# Altium schematic symbol library KSZ9031RNX.Schlib: 1 symbol
Pins are listed as number, name and electrical type; pins without a type are passive.

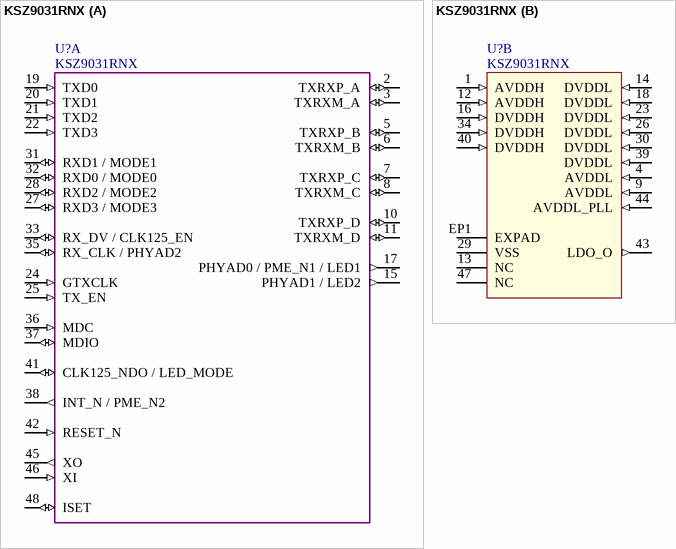
[diagram p0: symbol KSZ9031RNX]

## KSZ9031RNX
designator U?
part A pins: 2 TXRXP_A (io), 3 TXRXM_A (io), 5 TXRXP_B (io), 6 TXRXM_B (io), 7 TXRXP_C (io), 8 TXRXM_C (io), 10 TXRXP_D (io), 11 TXRXM_D (io), 15 PHYAD1 / LED2 (out) "LED2 / PHYAD1", 17 PHYAD0 / PME_N1 / LED1 (out) "LED! / PME_N1 / PHYAD0", 19 TXD0 (in), 20 TXD1 (in), 21 TXD2 (in), 22 TXD3 (in), 24 GTXCLK (in), 25 TX_EN (in), 27 RXD3 / MODE3 (io), 28 RXD2 / MODE2 (io), 31 RXD1 / MODE1 (io), 32 RXD0 / MODE0 (io), 33 RX_DV / CLK125_EN (io), 35 RX_CLK / PHYAD2 (io), 36 MDC (in), 37 MDIO (io), 38 INT_N / PME_N2 (out), 41 CLK125_NDO / LED_MODE (io), 42 RESET_N (in), 45 XO (out), 46 XI (in), 48 ISET (io)
part B pins: 1 AVDDH (in), 4 AVDDL (in), 9 AVDDL (in), 12 AVDDH (in), 13 NC, 14 DVDDL (in), 16 DVDDH (in), 18 DVDDL (in), 23 DVDDL (in), 26 DVDDL (in), 29 VSS (power), 30 DVDDL (in), 34 DVDDH (in), 39 DVDDL (in), 40 DVDDH (in), 43 LDO_O (out), 44 AVDDL_PLL (in), 47 NC, EP1 EXPAD (power)
2 alternate drawings of the same symbol